# Altium footprint library Particle-Devices.PCBLIB: 13 footprints
Each footprint in its own frame and in the unit in brackets; x right, y up, seen from the top. Pads: shape width x height; smd on the part's side, far side on the other; paste and mask are expansions set on the pad; w line width, h text height; cw(c..) or ccw(c..) is an arc to the next point about the centre after c.
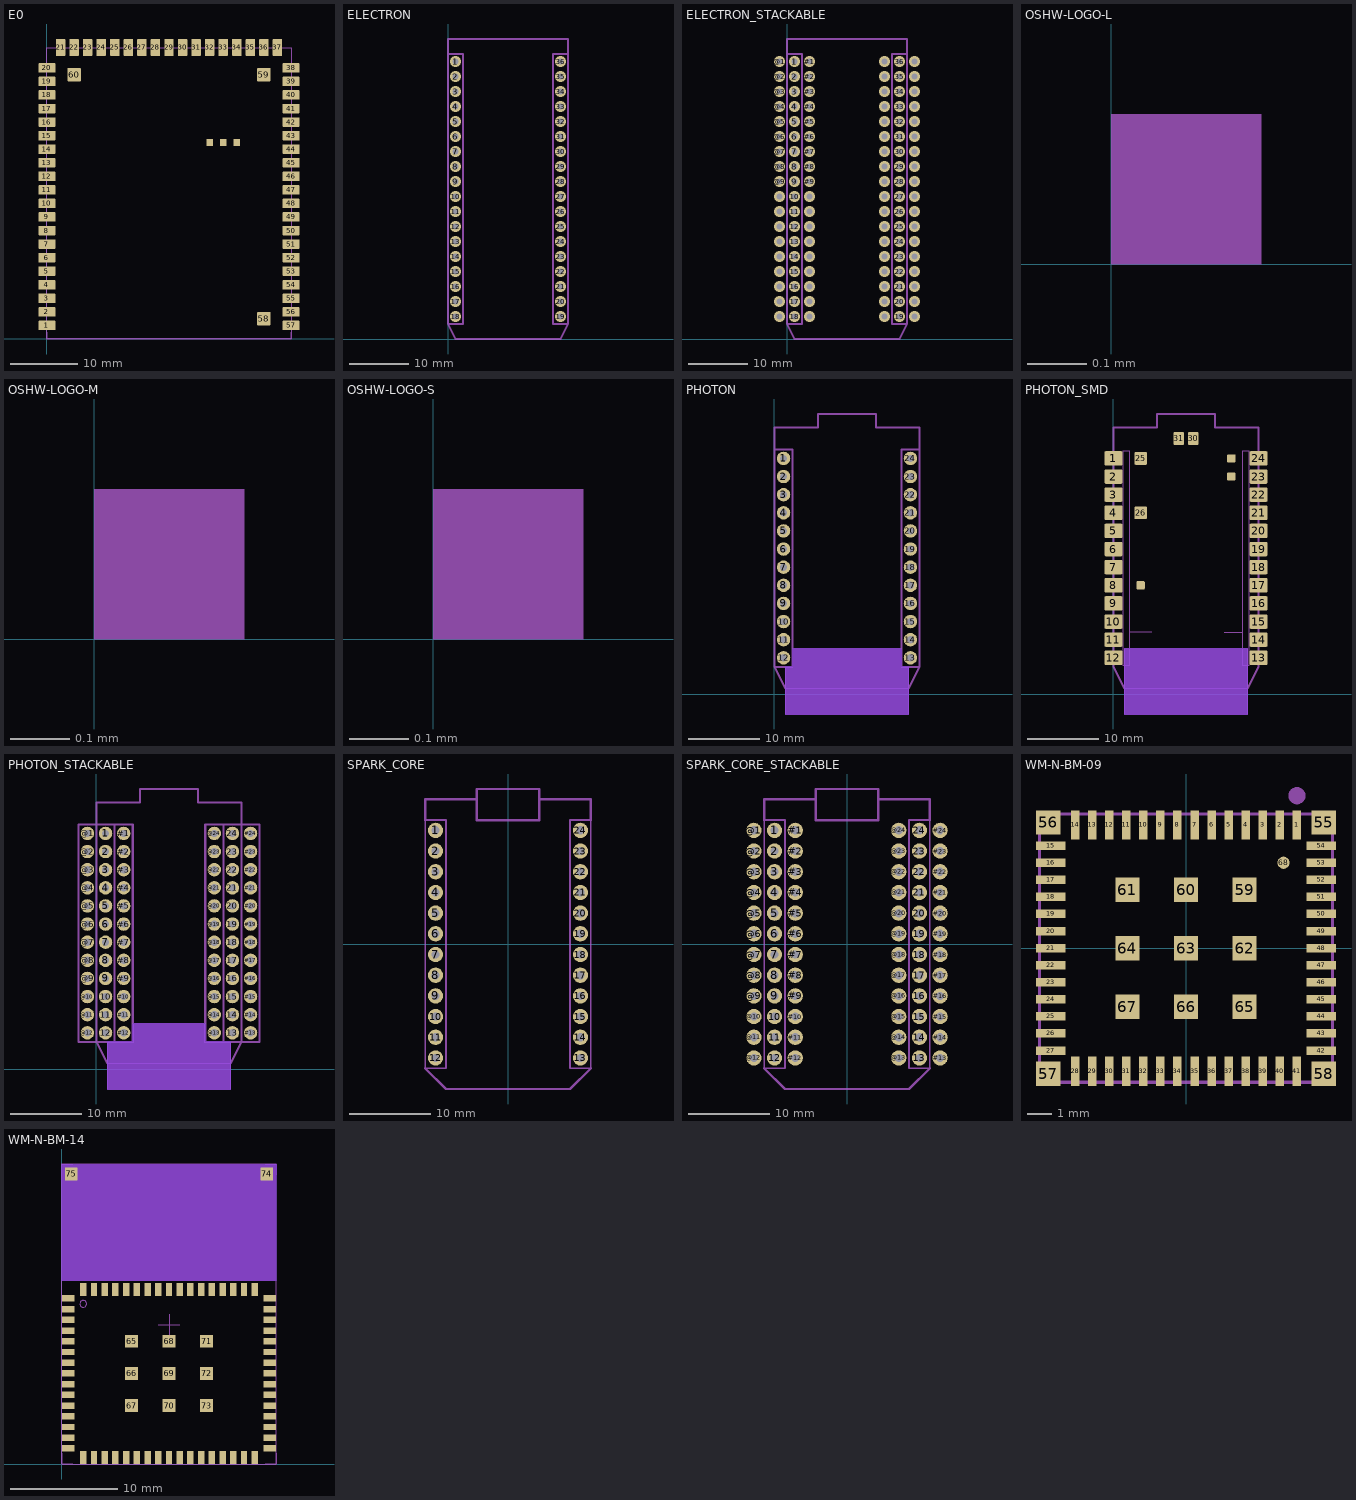
[diagram p0: the footprints below, top view; thin cyan lines are the x and y axes]

## E0 [mm]
pads (63):
  rrect15% 2.5x1.4 smd: 1(-0.008,2) 2(-0.008,4) 3(-0.008,6) 4(-0.008,8) 5(-0.008,10) 6(-0.008,12) 7(-0.008,14) 8(-0.008,16) 9(-0.008,18) 10(-0.008,20) 11(-0.008,22) 12(-0.008,24) 13(-0.008,26) 14(-0.008,28) 15(-0.008,30) 16(-0.008,32) 17(-0.008,34) 18(-0.008,36) 19(-0.008,38) 20(-0.008,40) 38(36.008,40) 39(36.008,38) 40(36.008,36) 41(36.008,34) 42(36.008,32) 43(36.008,30) 44(36.008,28) 45(36.008,26) 46(36.008,24) 47(36.008,22) 48(36.008,20) 49(36.008,18) 50(36.008,16) 51(36.008,14) 52(36.008,12) 53(36.008,10) 54(36.008,8) 55(36.008,6) 56(36.008,4) 57(36.008,2)
  rrect15% 1.4x2.5 smd: 21(2,43.008) 22(4,43.008) 23(6,43.008) 24(8,43.008) 25(10,43.008) 26(12,43.008) 27(14,43.008) 28(16,43.008) 29(18,43.008) 30(20,43.008) 31(22,43.008) 32(24,43.008) 33(26,43.008) 34(28,43.008) 35(30,43.008) 36(32,43.008) 37(34,43.008)
  rrect15% 2x2 smd: 58(32,3) 59(32,39) 60(4,39)
  rect 1x1 smd: 61(24,29) 62(26,29) 63(28,29)
Mechanical 2:
  lines w0.127: 0,1 0,0 36,0 36,1 ; 0,41 0,43 1,43 ; 35,43 36,43 36,41
Mechanical 8:
  lines w0.127: 0,0 0,43 36,43 36,0 0,0

## ELECTRON [mil]
pads (36):
  round 74 hole 40: 1(50,1850) 2(50,1750) 3(50,1650) 4(50,1550) 5(50,1450) 6(50,1350) 7(50,1250) 8(50,1150) 9(50,1050) 10(50,950) 11(50,850) 12(50,750) 13(50,650) 14(50,550) 15(50,450) 16(50,350) 17(50,250) 18(50,150) 19(750,150) 20(750,250) 21(750,350) 22(750,450) 23(750,550) 24(750,650) 25(750,750) 26(750,850) 27(750,950) 28(750,1050) 29(750,1150) 30(750,1250) 31(750,1350) 32(750,1450) 33(750,1550) 34(750,1650) 35(750,1750) 36(750,1850)
Mechanical 2:
  lines w12: 0,100 0,1900 ; 0,100 50,0 750,0 800,100 ; 0,100 100,100 100,1900 0,1900 ; 0,1900 0,2000 800,2000 800,1900 ; 800,100 800,1900 ; 800,100 700,100 700,1900 800,1900
Mechanical 8:
  drawing of 50 lines, arcs and shapes, not listed

## ELECTRON_STACKABLE [mil]
pads (108):
  round 74 hole 40: 1(50,1850) 2(50,1750) 3(50,1650) 4(50,1550) 5(50,1450) 6(50,1350) 7(50,1250) 8(50,1150) 9(50,1050) 10(50,950) 11(50,850) 12(50,750) 13(50,650) 14(50,550) 15(50,450) 16(50,350) 17(50,250) 18(50,150) 19(750,150) 20(750,250) 21(750,350) 22(750,450) 23(750,550) 24(750,650) 25(750,750) 26(750,850) 27(750,950) 28(750,1050) 29(750,1150) 30(750,1250) 31(750,1350) 32(750,1450) 33(750,1550) 34(750,1650) 35(750,1750) 36(750,1850) #1(150,1850) #2(150,1750) #3(150,1650) #4(150,1550) #5(150,1450) #6(150,1350) #7(150,1250) #8(150,1150) #9(150,1050) #10(150,950) #11(150,850) #12(150,750) #13(150,650) #14(150,550) #15(150,450) #16(150,350) #17(150,250) #18(150,150) #19(850,150) #20(850,250) #21(850,350) #22(850,450) #23(850,550) #24(850,650) #25(850,750) #26(850,850) #27(850,950) #28(850,1050) #29(850,1150) #30(850,1250) #31(850,1350) #32(850,1450) #33(850,1550) #34(850,1650) #35(850,1750) #36(850,1850) @1(-50,1850) @2(-50,1750) @3(-50,1650) @4(-50,1550) @5(-50,1450) @6(-50,1350) @7(-50,1250) @8(-50,1150) @9(-50,1050) @10(-50,950) @11(-50,850) @12(-50,750) @13(-50,650) @14(-50,550) @15(-50,450) @16(-50,350) @17(-50,250) @18(-50,150) @19(650,150) @20(650,250) @21(650,350) @22(650,450) @23(650,550) @24(650,650) @25(650,750) @26(650,850) @27(650,950) @28(650,1050) @29(650,1150) @30(650,1250) @31(650,1350) @32(650,1450) @33(650,1550) @34(650,1650) @35(650,1750) @36(650,1850)
Mechanical 2:
  lines w12: 0,100 0,1900 ; 0,100 50,0 750,0 800,100 ; 0,100 100,100 100,1900 0,1900 ; 0,1900 0,2000 800,2000 800,1900 ; 800,100 800,1900 ; 800,100 700,100 700,1900 800,1900
Mechanical 8:
  drawing of 50 lines, arcs and shapes, not listed

## OSHW-LOGO-L [mil]
Mechanical 2:
  region: 0,0 10,0 10,10 0,10

## OSHW-LOGO-M [mil]
Mechanical 2:
  region: 0,0 10,0 10,10 0,10

## OSHW-LOGO-S [mil]
Mechanical 2:
  region: 0,0 10,0 10,10 0,10

## PHOTON [mil]
pads (24):
  round 74 hole 40: 1(50,1300) 2(50,1200) 3(50,1100) 4(50,1000) 5(50,900) 6(50,800) 7(50,700) 8(50,600) 9(50,500) 10(50,400) 11(50,300) 12(50,200) 13(750,200) 14(750,300) 15(750,400) 16(750,500) 17(750,600) 18(750,700) 19(750,800) 20(750,900) 21(750,1000) 22(750,1100) 23(750,1200) 24(750,1300)
Top Layer keep-out:
  region: 60,-110 60,150 740,150 740,-110
  region: 100,150 100,250 700,250 700,150
Bottom Layer keep-out:
  region: 100,150 100,250 700,250 700,150
  region: 60,-110 60,150 740,150 740,-110
Mechanical 2:
  lines w12: 0,150 60,30 740,30 800,150 ; 0,150 0,1350 ; 0,150 100,150 100,1350 0,1350 ; 0,1350 0,1470 240,1470 240,1545 560,1545 560,1470 800,1470 800,1350 ; 800,150 800,1350 ; 800,150 700,150 700,1350 800,1350
Mechanical 8:
  region: 40,710 60,710 60,690 40,690
  region: 40,810 60,810 60,790 40,790
  region: 40,910 60,910 60,890 40,890
  region: 40,1010 60,1010 60,990 40,990
  region: 40,1110 60,1110 60,1090 40,1090
  region: 40,1210 60,1210 60,1190 40,1190
  region: 40,1310 60,1310 60,1290 40,1290
  region: 40,610 60,610 60,590 40,590
  region: 40,510 60,510 60,490 40,490
  region: 40,410 60,410 60,390 40,390
  region: 40,310 60,310 60,290 40,290
  region: 40,210 60,210 60,190 40,190
  region: 760,790 740,790 740,810 760,810
  region: 760,690 740,690 740,710 760,710
  region: 760,590 740,590 740,610 760,610
  region: 760,490 740,490 740,510 760,510
  region: 760,390 740,390 740,410 760,410
  region: 760,290 740,290 740,310 760,310
  region: 760,190 740,190 740,210 760,210
  region: 760,890 740,890 740,910 760,910
  region: 760,990 740,990 740,1010 760,1010
  region: 760,1090 740,1090 740,1110 760,1110
  region: 760,1190 740,1190 740,1210 760,1210
  region: 760,1290 740,1290 740,1310 760,1310
  lines w5: 60,-110 60,150 100,150 100,250 700,250 700,150 740,150 740,-110 60,-110
  lines w12: 0,150 60,30 740,30 800,150 ; 0,150 0,1350 ; 0,150 100,150 100,1350 0,1350 ; 0,1350 0,1470 240,1470 240,1545 560,1545 560,1470 800,1470 800,1350 ; 800,150 800,1350 ; 800,150 700,150 700,1350 800,1350

## PHOTON_SMD [mil]
pads (31):
  rrect20% 100x80 smd: 1(0,1300) 2(0,1200) 3(0,1100) 4(0,1000) 5(0,900) 6(0,800) 7(0,700) 8(0,600) 9(0,500) 10(0,400) 11(0,300) 12(0,200) 13(800,200) 14(800,300) 15(800,400) 16(800,500) 17(800,600) 18(800,700) 19(800,800) 20(800,900) 21(800,1000) 22(800,1100) 23(800,1200) 24(800,1300)
  rrect20% 70x70 smd: 25(150,1300) 26(150,1000)
  rrect20% 45x45 smd: 27(150,600) 28(650,1200) 29(650,1300)
  rrect20% 60x70 smd: 30(440,1410) 31(360,1410)
Top Layer keep-out:
  region: 60,-110 60,250 740,250 740,-110
Bottom Layer keep-out:
  region: 60,-110 60,250 740,250 740,-110
Mechanical 2:
  lines w12: 0,150 60,30 740,30 800,150 ; 0,1355 0,1470 240,1470 240,1545 560,1545 560,1470 800,1470 800,1355
Mechanical 8:
  lines w5: 210,340 90,340 ; 610,340 710,340 ; 90,340 90,160 50,160 50,1340 90,1340 90,340 ; 710,340 710,1340 750,1340 750,160 710,160 710,340 ; 60,-110 60,250 740,250 740,-110 60,-110
  lines w12: 0,150 60,30 740,30 800,150 800,185 cw(c800,200) 800,215 800,285 cw(c800,300) 800,315 800,385 cw(c800,400) 800,415 800,485 cw(c800,500) 800,515 800,585 cw(c800,600) 800,615 800,685 cw(c800,700) 800,715 800,785 cw(c800,800) 800,815 800,885 cw(c800,900) 800,915 800,985 cw(c800,1000) 800,1015 800,1085 cw(c800,1100) 800,1115 800,1185 cw(c800,1200) 800,1215 800,1285 cw(c800,1300) 800,1315 800,1470 560,1470 560,1545 240,1545 240,1470 0,1470 0,1315 cw(c0,1300) 0,1285 0,1215 cw(c0,1200) 0,1185 0,1115 cw(c0,1100) 0,1085 0,1015 cw(c0,1000) 0,985 0,915 cw(c0,900) 0,885 0,815 cw(c0,800) 0,785 0,715 cw(c0,700) 0,685 0,615 cw(c0,600) 0,585 0,515 cw(c0,500) 0,485 0,415 cw(c0,400) 0,385 0,315 cw(c0,300) 0,285 0,215 cw(c0,200) 0,185 0,150

## PHOTON_STACKABLE [mil]
pads (72):
  round 74 hole 40: 1(50,1300) 2(50,1200) 3(50,1100) 4(50,1000) 5(50,900) 6(50,800) 7(50,700) 8(50,600) 9(50,500) 10(50,400) 11(50,300) 12(50,200) 13(750,200) 14(750,300) 15(750,400) 16(750,500) 17(750,600) 18(750,700) 19(750,800) 20(750,900) 21(750,1000) 22(750,1100) 23(750,1200) 24(750,1300) #1(150,1300) #2(150,1200) #3(150,1100) #4(150,1000) #5(150,900) #6(150,800) #7(150,700) #8(150,600) #9(150,500) #10(150,400) #11(150,300) #12(150,200) #13(850,200) #14(850,300) #15(850,400) #16(850,500) #17(850,600) #18(850,700) #19(850,800) #20(850,900) #21(850,1000) #22(850,1100) #23(850,1200) #24(850,1300) @1(-50,1300) @2(-50,1200) @3(-50,1100) @4(-50,1000) @5(-50,900) @6(-50,800) @7(-50,700) @8(-50,600) @9(-50,500) @10(-50,400) @11(-50,300) @12(-50,200) @13(650,200) @14(650,300) @15(650,400) @16(650,500) @17(650,600) @18(650,700) @19(650,800) @20(650,900) @21(650,1000) @22(650,1100) @23(650,1200) @24(650,1300)
Top Layer keep-out:
  region: 60,-110 60,150 740,150 740,-110
  region: 200,150 200,250 600,250 600,150
Bottom Layer keep-out:
  region: 60,-110 60,150 740,150 740,-110
  region: 200,150 200,250 600,250 600,150
Mechanical 2:
  lines w12: 0,150 60,30 740,30 800,150 ; 0,150 200,150 200,1350 0,1350 ; 0,150 -100,150 -100,1350 0,1350 ; 0,1350 0,1470 240,1470 240,1545 560,1545 560,1470 800,1470 800,1350 ; 800,150 600,150 600,1350 800,1350 ; 800,150 900,150 900,1350 800,1350
Mechanical 8:
  region: 40,710 60,710 60,690 40,690
  region: 40,810 60,810 60,790 40,790
  region: 40,910 60,910 60,890 40,890
  region: 40,1010 60,1010 60,990 40,990
  region: 40,1110 60,1110 60,1090 40,1090
  region: 40,1210 60,1210 60,1190 40,1190
  region: 40,1310 60,1310 60,1290 40,1290
  region: 40,610 60,610 60,590 40,590
  region: 40,510 60,510 60,490 40,490
  region: 40,410 60,410 60,390 40,390
  region: 40,310 60,310 60,290 40,290
  region: 40,210 60,210 60,190 40,190
  region: 760,790 740,790 740,810 760,810
  region: 760,690 740,690 740,710 760,710
  region: 760,590 740,590 740,610 760,610
  region: 760,490 740,490 740,510 760,510
  region: 760,390 740,390 740,410 760,410
  region: 760,290 740,290 740,310 760,310
  region: 760,190 740,190 740,210 760,210
  region: 760,890 740,890 740,910 760,910
  region: 760,990 740,990 740,1010 760,1010
  region: 760,1090 740,1090 740,1110 760,1110
  region: 760,1190 740,1190 740,1210 760,1210
  region: 760,1290 740,1290 740,1310 760,1310
  lines w5: 60,-110 60,30 60,150 100,150 200,150 200,250 600,250 600,150 740,150 740,30 740,-110 60,-110
  lines w12: 0,150 60,30 740,30 800,150 ; 0,150 0,1350 ; 0,150 100,150 100,1350 0,1350 ; 0,1350 0,1470 240,1470 240,1545 560,1545 560,1470 800,1470 800,1350 ; 800,150 800,1350 ; 800,150 700,150 700,1350 800,1350

## SPARK_CORE [mil]
pads (24):
  round 74 hole 40: 1(-350,550) 2(-350,450) 3(-350,350) 4(-350,250) 5(-350,150) 6(-350,50) 7(-350,-50) 8(-350,-150) 9(-350,-250) 10(-350,-350) 11(-350,-450) 12(-350,-550) 13(350,-550) 14(350,-450) 15(350,-350) 16(350,-250) 17(350,-150) 18(350,-50) 19(350,50) 20(350,150) 21(350,250) 22(350,350) 23(350,450) 24(350,550)
Mechanical 2:
  lines w8: -400,-600 -400,600 -300,600 -300,-600 -400,-600 ; 300,-600 400,-600 400,600 300,600 300,-600
  lines w12: -400,-600 -300,-700 300,-700 400,-600 ; -400,600 -400,700 -150,700 ; 400,600 400,700 150,700 ; -150,700 -150,750 150,750 150,700 ; -150,700 -150,600 150,600 150,700
Mechanical 8:
  region: -360,-40 -340,-40 -340,-60 -360,-60
  region: -360,60 -340,60 -340,40 -360,40
  region: -360,160 -340,160 -340,140 -360,140
  region: -360,260 -340,260 -340,240 -360,240
  region: -360,360 -340,360 -340,340 -360,340
  region: -360,460 -340,460 -340,440 -360,440
  region: -360,560 -340,560 -340,540 -360,540
  region: -360,-140 -340,-140 -340,-160 -360,-160
  region: -360,-240 -340,-240 -340,-260 -360,-260
  region: -360,-340 -340,-340 -340,-360 -360,-360
  region: -360,-440 -340,-440 -340,-460 -360,-460
  region: -360,-540 -340,-540 -340,-560 -360,-560
  region: 360,40 340,40 340,60 360,60
  region: 360,-60 340,-60 340,-40 360,-40
  region: 360,-160 340,-160 340,-140 360,-140
  region: 360,-260 340,-260 340,-240 360,-240
  region: 360,-360 340,-360 340,-340 360,-340
  region: 360,-460 340,-460 340,-440 360,-440
  region: 360,-560 340,-560 340,-540 360,-540
  region: 360,140 340,140 340,160 360,160
  region: 360,240 340,240 340,260 360,260
  region: 360,340 340,340 340,360 360,360
  region: 360,440 340,440 340,460 360,460
  region: 360,540 340,540 340,560 360,560

## SPARK_CORE_STACKABLE [mil]
pads (72):
  round 74 hole 40: 1(-350,550) 2(-350,450) 3(-350,350) 4(-350,250) 5(-350,150) 6(-350,50) 7(-350,-50) 8(-350,-150) 9(-350,-250) 10(-350,-350) 11(-350,-450) 12(-350,-550) 13(350,-550) 14(350,-450) 15(350,-350) 16(350,-250) 17(350,-150) 18(350,-50) 19(350,50) 20(350,150) 21(350,250) 22(350,350) 23(350,450) 24(350,550) #1(-250,550) #2(-250,450) #3(-250,350) #4(-250,250) #5(-250,150) #6(-250,50) #7(-250,-50) #8(-250,-150) #9(-250,-250) #10(-250,-350) #11(-250,-450) #12(-250,-550) #13(450,-550) #14(450,-450) #15(450,-350) #16(450,-250) #17(450,-150) #18(450,-50) #19(450,50) #20(450,150) #21(450,250) #22(450,350) #23(450,450) #24(450,550) @1(-450,550) @2(-450,450) @3(-450,350) @4(-450,250) @5(-450,150) @6(-450,50) @7(-450,-50) @8(-450,-150) @9(-450,-250) @10(-450,-350) @11(-450,-450) @12(-450,-550) @13(250,-550) @14(250,-450) @15(250,-350) @16(250,-250) @17(250,-150) @18(250,-50) @19(250,50) @20(250,150) @21(250,250) @22(250,350) @23(250,450) @24(250,550)
Mechanical 2:
  lines w8: -400,-600 -300,-600 -300,600 -400,600 -400,-600 ; 300,-600 300,600 400,600 400,-600 300,-600
  lines w12: -400,-600 -300,-700 300,-700 400,-600 ; -400,600 -400,700 -150,700 ; 400,600 400,700 150,700 ; -150,700 -150,750 150,750 150,700 ; -150,700 -150,600 150,600 150,700
Mechanical 8:
  region: -360,-40 -340,-40 -340,-60 -360,-60
  region: -360,60 -340,60 -340,40 -360,40
  region: -360,160 -340,160 -340,140 -360,140
  region: -360,260 -340,260 -340,240 -360,240
  region: -360,360 -340,360 -340,340 -360,340
  region: -360,460 -340,460 -340,440 -360,440
  region: -360,560 -340,560 -340,540 -360,540
  region: -360,-140 -340,-140 -340,-160 -360,-160
  region: -360,-240 -340,-240 -340,-260 -360,-260
  region: -360,-340 -340,-340 -340,-360 -360,-360
  region: -360,-440 -340,-440 -340,-460 -360,-460
  region: -360,-540 -340,-540 -340,-560 -360,-560
  region: 360,40 340,40 340,60 360,60
  region: 360,-60 340,-60 340,-40 360,-40
  region: 360,-160 340,-160 340,-140 360,-140
  region: 360,-260 340,-260 340,-240 360,-240
  region: 360,-360 340,-360 340,-340 360,-340
  region: 360,-460 340,-460 340,-440 360,-440
  region: 360,-560 340,-560 340,-540 360,-540
  region: 360,140 340,140 340,160 360,160
  region: 360,240 340,240 340,260 360,260
  region: 360,340 340,340 340,360 360,360
  region: 360,440 340,440 340,460 360,460
  region: 360,540 340,540 340,560 360,560

## WM-N-BM-09 [mm]
pads (68):
  rect 0.35x1.2 smd mask-0.6: 1(4.55,5.05) 14(-4.55,5.05) 28(-4.55,-5.05) 41(4.55,-5.05)
  rect 0.35x1.2 smd: 2(3.85,5.05) 3(3.15,5.05) 4(2.45,5.05) 5(1.75,5.05) 6(1.05,5.05) 7(0.35,5.05) 8(-0.35,5.05) 9(-1.05,5.05) 10(-1.75,5.05) 11(-2.45,5.05) 12(-3.15,5.05) 13(-3.85,5.05) 29(-3.85,-5.05) 30(-3.15,-5.05) 31(-2.45,-5.05) 32(-1.75,-5.05) 33(-1.05,-5.05) 34(-0.35,-5.05) 35(0.35,-5.05) 36(1.05,-5.05) 37(1.75,-5.05) 38(2.45,-5.05) 39(3.15,-5.05) 40(3.85,-5.05)
  rect 1.2x0.35 smd mask-0.6: 15(-5.55,4.2) 27(-5.55,-4.2) 42(5.55,-4.2) 54(5.55,4.2)
  rect 1.2x0.35 smd: 16(-5.55,3.5) 17(-5.55,2.8) 18(-5.55,2.1) 19(-5.55,1.4) 20(-5.55,0.7) 21(-5.55,0) 22(-5.55,-0.7) 23(-5.55,-1.4) 24(-5.55,-2.1) 25(-5.55,-2.8) 26(-5.55,-3.5) 43(5.55,-3.5) 44(5.55,-2.8) 45(5.55,-2.1) 46(5.55,-1.4) 47(5.55,-0.7) 48(5.55,0) 49(5.55,0.7) 50(5.55,1.4) 51(5.55,2.1) 52(5.55,2.8) 53(5.55,3.5)
  rect 1x1 smd: 55(5.65,5.15) 56(-5.65,5.15) 57(-5.65,-5.15) 58(5.65,-5.15) 59(2.4,2.4) 60(0,2.4) 61(-2.4,2.4) 62(2.4,0) 63(0,0) 64(-2.4,0) 65(2.4,-2.4) 66(0,-2.4) 67(-2.4,-2.4)
  rrect100% 0.5x0.5 smd paste-0.25: 68(4,3.5)
Top Solder:
  region: 0,0 0.254,0 0.254,0.254 0,0.254
  region: 0,0 0.254,0 0.254,0.254 0,0.254
  region: 0,0 0.254,0 0.254,0.254 0,0.254
  region: 0,0 0.254,0 0.254,0.254 0,0.254
  region: 0,0 0.254,0 0.254,0.254 0,0.254
  region: 0,0 0.254,0 0.254,0.254 0,0.254
  region: 0,0 0.254,0 0.254,0.254 0,0.254
  region: 0,0 0.254,0 0.254,0.254 0,0.254
Mechanical 2:
  circle w0.406: c4.547,6.248 r0.148
Mechanical 8:
  lines w0.127: -6,-5.5 -6,5.5 6,5.5 6,-5.5 -6,-5.5

## WM-N-BM-14 [mm]
pads (75):
  rect 1.2x0.6 smd: 1(0.6,15.45) 2(0.6,14.45) 3(0.6,13.45) 4(0.6,12.45) 5(0.6,11.45) 6(0.6,10.45) 7(0.6,9.45) 8(0.6,8.45) 9(0.6,7.45) 10(0.6,6.45) 11(0.6,5.45) 12(0.6,4.45) 13(0.6,3.45) 14(0.6,2.45) 15(0.6,1.45) 33(19.4,1.45) 34(19.4,2.45) 35(19.4,3.45) 36(19.4,4.45) 37(19.4,5.45) 38(19.4,6.45) 39(19.4,7.45) 40(19.4,8.45) 41(19.4,9.45) 42(19.4,10.45) 43(19.4,11.45) 44(19.4,12.45) 45(19.4,13.45) 46(19.4,14.45) 47(19.4,15.45)
  rect 0.6x1.2 smd: 16(2,0.6) 17(3,0.6) 18(4,0.6) 19(5,0.6) 20(6,0.6) 21(7,0.6) 22(8,0.6) 23(9,0.6) 24(10,0.6) 25(11,0.6) 26(12,0.6) 27(13,0.6) 28(14,0.6) 29(15,0.6) 30(16,0.6) 31(17,0.6) 32(18,0.6) 48(18,16.3) 49(17,16.3) 50(16,16.3) 51(15,16.3) 52(14,16.3) 53(13,16.3) 54(12,16.3) 55(11,16.3) 56(10,16.3) 57(9,16.3) 58(8,16.3) 59(7,16.3) 60(6,16.3) 61(5,16.3) 62(4,16.3) 63(3,16.3) 64(2,16.3)
  rect 1.2x1.2 smd: 65(6.5,11.45) 66(6.5,8.45) 67(6.5,5.45) 68(10,11.45) 69(10,8.45) 70(10,5.45) 71(13.5,11.45) 72(13.5,8.45) 73(13.5,5.45) 74(19.12,27.07) 75(0.88,27.07)
Top Layer keep-out:
  region: 0,17.1 0,28 20,28 20,17.1
Bottom Layer keep-out:
  region: 0,17.1 0,28 20,28 20,17.1
Mechanical 2:
  circle w0: c2,14.95 r0.316
  lines w0.127: 0,1 0,0 1,0 ; 0,27 0,28 1,28 ; 19,0 20,0 20,1 ; 19,28 20,28 20,27
Mechanical 8:
  lines w0: 0,0 20,0 20,28 0,28 0,0
Mech39:
  lines w0: 9,13 11,13 ; 10,12 10,14